# EAGLE library part CAS143-47 (library Souers)
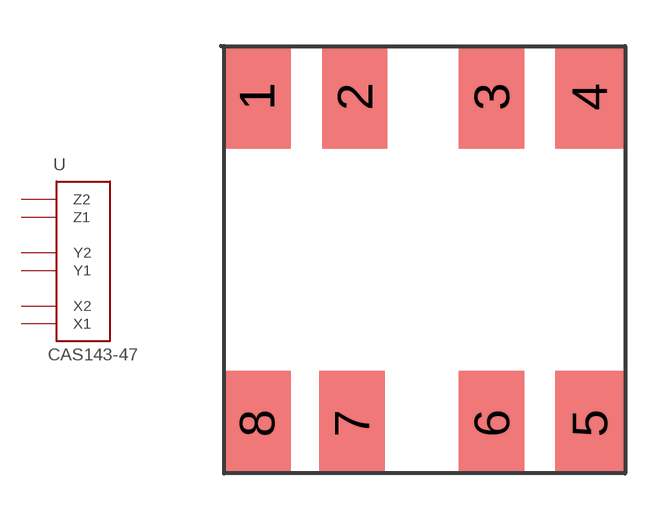
[diagram p0: symbol with the pads of CAS143-47; footprint CAS143-47]

Designator prefix -

## CAS143-47  [CAS143-47]
2  Z1
3  Z2
5  X2
6  X1
7  Y2
8  Y1

## Footprint CAS143-47 (pad centres in mm)
smd 2.3 x 3.5: 1 -5.6,5.6; 4 5.6,5.6; 5 5.6,-5.4; 8 -5.6,-5.4
smd 2.2 x 3.5: 2 -2.3,5.6; 3 2.3,5.6; 6 2.3,-5.4; 7 -2.4,-5.4